# EAGLE library part GD542X (library Custom)
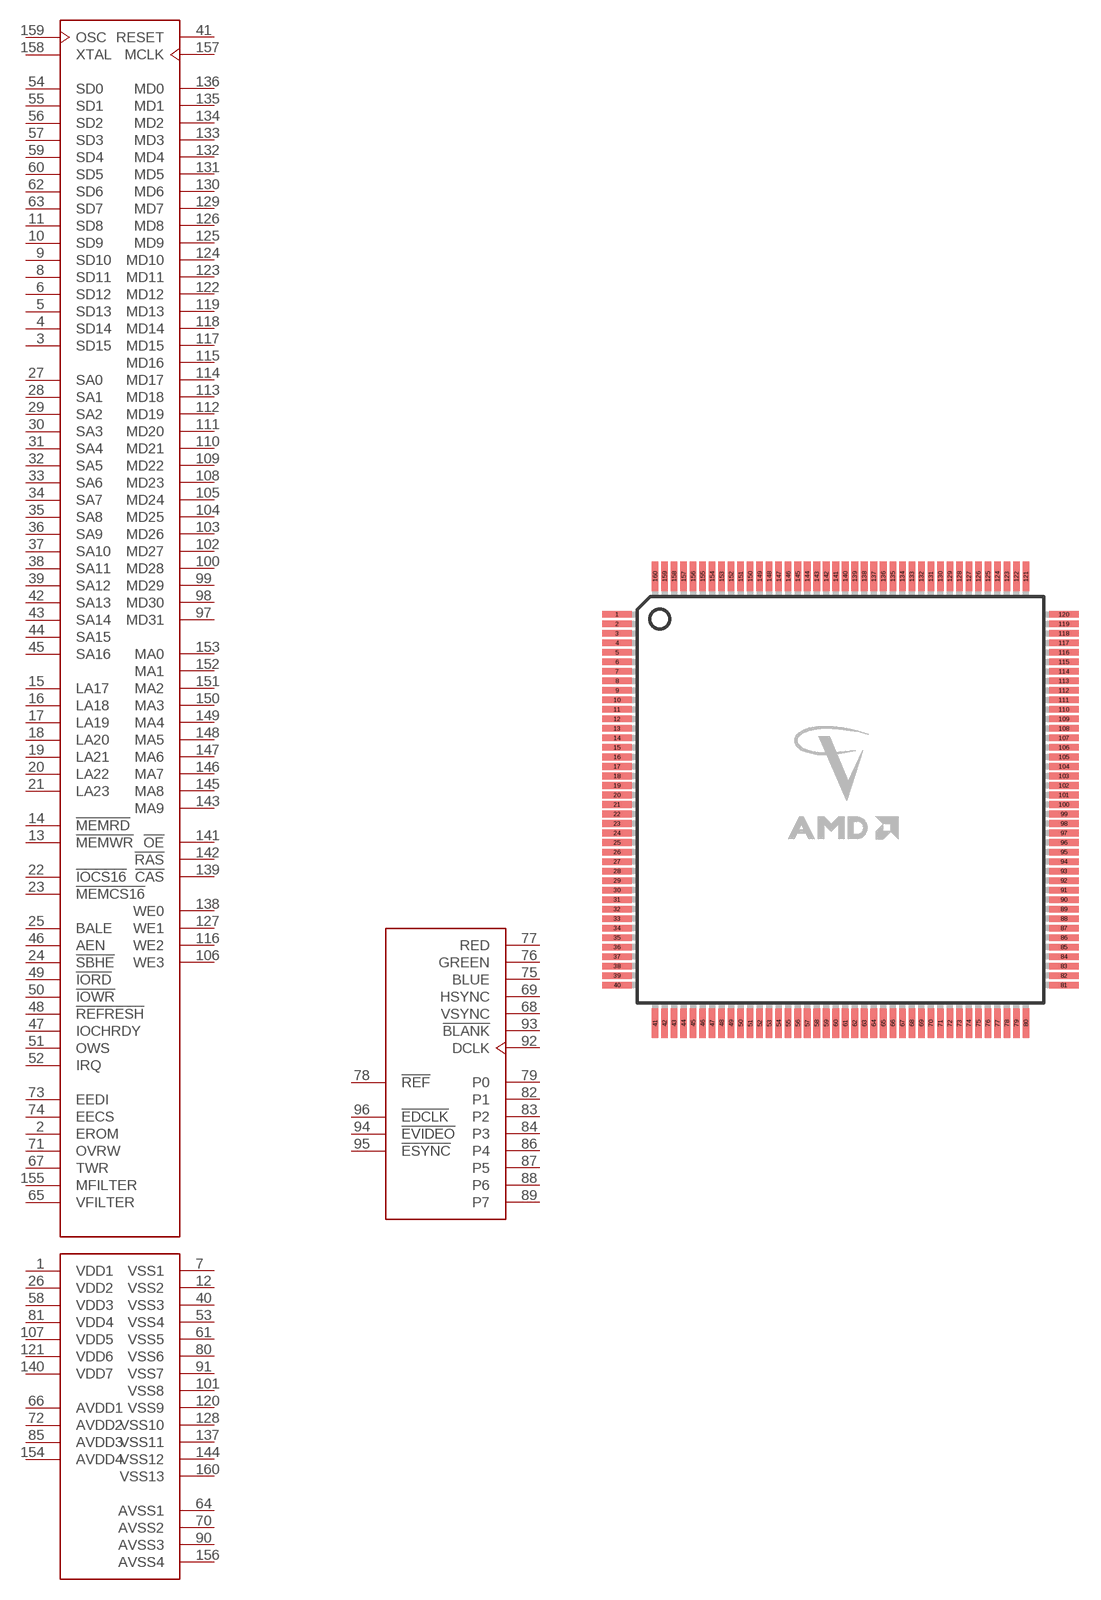
[diagram p23: symbol with the pads of PQFP160; footprint PQFP160]

Designator prefix -

## GD542X  [PQFP160]
1  VDD1  pwr
2  EROM
3  SD15
4  SD14
5  SD13
6  SD12
7  VSS1  pwr
8  SD11
9  SD10
10  SD9
11  SD8
12  VSS2  pwr
13  !MEMWR  in
14  !MEMRD  in
15  LA17  nc
16  LA18  nc
17  LA19  nc
18  LA20  nc
19  LA21  nc
20  LA22  nc
21  LA23  nc
22  !IOCS16  out
23  !MEMCS16  out
24  !SBHE
25  BALE  in
26  VDD2  pwr
27  SA0  nc
28  SA1  nc
29  SA2  nc
30  SA3  nc
31  SA4  nc
32  SA5  nc
33  SA6  nc
34  SA7  nc
35  SA8  nc
36  SA9  nc
37  SA10  nc
38  SA11  nc
39  SA12  nc
40  VSS3  pwr
41  RESET  in
42  SA13  nc
43  SA14  nc
44  SA15  nc
45  SA16  nc
46  AEN  in
47  IOCHRDY
48  !REFRESH  in
49  !IORD  in
50  !IOWR  in
51  OWS  out
52  IRQ  out
53  VSS4  pwr
54  SD0
55  SD1
56  SD2
57  SD3
58  VDD3  pwr
59  SD4
60  SD5
61  VSS5  pwr
62  SD6
63  SD7
64  AVSS1  pwr
65  VFILTER
66  AVDD1  pwr
67  TWR
68  VSYNC  out
69  HSYNC  out
70  AVSS2  pwr
71  OVRW
72  AVDD2  pwr
73  EEDI
74  EECS
75  BLUE  out
76  GREEN  out
77  RED  out
78  !REF
79  P0
80  VSS6  pwr
81  VDD4  pwr
82  P1
83  P2
84  P3
85  AVDD3  pwr
86  P4
87  P5
88  P6
89  P7
90  AVSS3  pwr
91  VSS7  pwr
92  DCLK
93  !BLANK
94  !EVIDEO
95  !ESYNC
96  !EDCLK
97  MD31
98  MD30
99  MD29
100  MD28
101  VSS8  pwr
102  MD27
103  MD26
104  MD25
105  MD24
106  WE3
107  VDD5  pwr
108  MD23
109  MD22
110  MD21
111  MD20
112  MD19
113  MD18
114  MD17
115  MD16
116  WE2
117  MD15
118  MD14
119  MD13
120  VSS9  pwr
121  VDD6  pwr
122  MD12
123  MD11
124  MD10
125  MD9
126  MD8
127  WE1
128  VSS10  pwr
129  MD7
130  MD6
131  MD5
132  MD4
133  MD3
134  MD2
135  MD1
136  MD0
137  VSS11  pwr
138  WE0
139  !CAS
140  VDD7  pwr
141  !OE
142  !RAS
143  MA9  out
144  VSS12  pwr
145  MA8  out
146  MA7  out
147  MA6  out
148  MA5  out
149  MA4  out
150  MA3  out
151  MA2  out
152  MA1  out
153  MA0  out
154  AVDD4  pwr
155  MFILTER
156  AVSS4  pwr
157  MCLK
158  XTAL
159  OSC  in
160  VSS13  pwr

## Footprint PQFP160 (pad centres in mm)
PLASTIC QUAD FLAT PACK
smd 2 x 0.45: 1 -15.275,12.675; 2 -15.275,12.025; 3 -15.275,11.375; 4 -15.275,10.725; 5 -15.275,10.075; 6 -15.275,9.425; 7 -15.275,8.775; 8 -15.275,8.125; 9 -15.275,7.475; 10 -15.275,6.825; 11 -15.275,6.175; 12 -15.275,5.525; 13 -15.275,4.875; 14 -15.275,4.225; 15 -15.275,3.575; 16 -15.275,2.925; 17 -15.275,2.275; 18 -15.275,1.625; 19 -15.275,0.975; 20 -15.275,0.325; 21 -15.275,-0.325; 22 -15.275,-0.975; 23 -15.275,-1.625; 24 -15.275,-2.275; 25 -15.275,-2.925; 26 -15.275,-3.575; 27 -15.275,-4.225; 28 -15.275,-4.875; 29 -15.275,-5.525; 30 -15.275,-6.175; 31 -15.275,-6.825; 32 -15.275,-7.475; 33 -15.275,-8.125; 34 -15.275,-8.775; 35 -15.275,-9.425; 36 -15.275,-10.075; 37 -15.275,-10.725; 38 -15.275,-11.375; 39 -15.275,-12.025; 40 -15.275,-12.675; 81 15.275,-12.675; 82 15.275,-12.025; 83 15.275,-11.375; 84 15.275,-10.725; 85 15.275,-10.075; 86 15.275,-9.425; 87 15.275,-8.775; 88 15.275,-8.125; 89 15.275,-7.475; 90 15.275,-6.825; 91 15.275,-6.175; 92 15.275,-5.525; 93 15.275,-4.875; 94 15.275,-4.225; 95 15.275,-3.575; 96 15.275,-2.925; 97 15.275,-2.275; 98 15.275,-1.625; 99 15.275,-0.975; 100 15.275,-0.325; 101 15.275,0.325; 102 15.275,0.975; 103 15.275,1.625; 104 15.275,2.275; 105 15.275,2.925; 106 15.275,3.575; 107 15.275,4.225; 108 15.275,4.875; 109 15.275,5.525; 110 15.275,6.175; 111 15.275,6.825; 112 15.275,7.475; 113 15.275,8.125; 114 15.275,8.775; 115 15.275,9.425; 116 15.275,10.075; 117 15.275,10.725; 118 15.275,11.375; 119 15.275,12.025; 120 15.275,12.675
smd 0.45 x 2: 41 -12.675,-15.275; 42 -12.025,-15.275; 43 -11.375,-15.275; 44 -10.725,-15.275; 45 -10.075,-15.275; 46 -9.425,-15.275; 47 -8.775,-15.275; 48 -8.125,-15.275; 49 -7.475,-15.275; 50 -6.825,-15.275; 51 -6.175,-15.275; 52 -5.525,-15.275; 53 -4.875,-15.275; 54 -4.225,-15.275; 55 -3.575,-15.275; 56 -2.925,-15.275; 57 -2.275,-15.275; 58 -1.625,-15.275; 59 -0.975,-15.275; 60 -0.325,-15.275; 61 0.325,-15.275; 62 0.975,-15.275; 63 1.625,-15.275; 64 2.275,-15.275; 65 2.925,-15.275; 66 3.575,-15.275; 67 4.225,-15.275; 68 4.875,-15.275; 69 5.525,-15.275; 70 6.175,-15.275; 71 6.825,-15.275; 72 7.475,-15.275; 73 8.125,-15.275; 74 8.775,-15.275; 75 9.425,-15.275; 76 10.075,-15.275; 77 10.725,-15.275; 78 11.375,-15.275; 79 12.025,-15.275; 80 12.675,-15.275; 121 12.675,15.275; 122 12.025,15.275; 123 11.375,15.275; 124 10.725,15.275; 125 10.075,15.275; 126 9.425,15.275; 127 8.775,15.275; 128 8.125,15.275; 129 7.475,15.275; 130 6.825,15.275; 131 6.175,15.275; 132 5.525,15.275; 133 4.875,15.275; 134 4.225,15.275; 135 3.575,15.275; 136 2.925,15.275; 137 2.275,15.275; 138 1.625,15.275; 139 0.975,15.275; 140 0.325,15.275; 141 -0.325,15.275; 142 -0.975,15.275; 143 -1.625,15.275; 144 -2.275,15.275; 145 -2.925,15.275; 146 -3.575,15.275; 147 -4.225,15.275; 148 -4.875,15.275; 149 -5.525,15.275; 150 -6.175,15.275; 151 -6.825,15.275; 152 -7.475,15.275; 153 -8.125,15.275; 154 -8.775,15.275; 155 -9.425,15.275; 156 -10.075,15.275; 157 -10.725,15.275; 158 -11.375,15.275; 159 -12.025,15.275; 160 -12.675,15.275